# EAGLE library part 61301311121 (library Header_R_ESP32)
CONN HEADER VERT 13POS 2.54MM Manufacturer's datasheet <https://katalog.we-online.de/em/datasheet/6130xx11121.pdf>
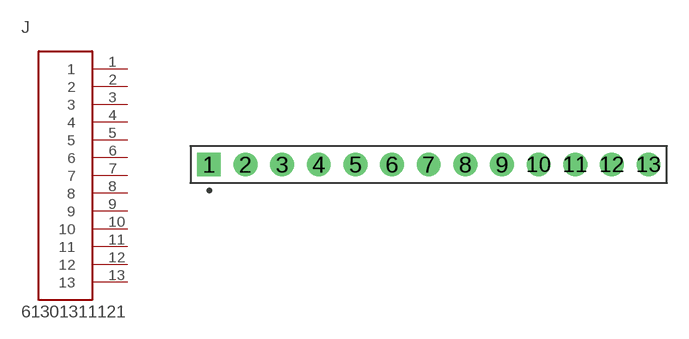
[diagram p16: symbol with the pads of 61301311121; footprint 61301311121]

Designator prefix J

## 61301311121 (CREATED_BY: PCBLayout.com; DIGIKEY_PART_NUMBER: 732-5324-ND; MANUFACTURER: Wurth Electronics Inc.; MPN: 61301311121)  [61301311121]
1  1  pas
2  2  pas
3  3  pas
4  4  pas
5  5  pas
6  6  pas
7  7  pas
8  8  pas
9  9  pas
10  10  pas
11  11  pas
12  12  pas
13  13  pas

## Footprint 61301311121 (pad centres in mm)
drill 1.1 square: 1 -15.24,0
drill 1.1: 2 -12.7,0; 3 -10.16,0; 4 -7.62,0; 5 -5.08,0; 6 -2.54,0; 7 0,0; 8 2.54,0; 9 5.08,0; 10 7.62,0; 11 10.16,0; 12 12.7,0; 13 15.24,0